# Altium integrated library sla2216.IntLib: 9 symbols
Pins are listed as number, name and electrical type; pins without a type are passive.

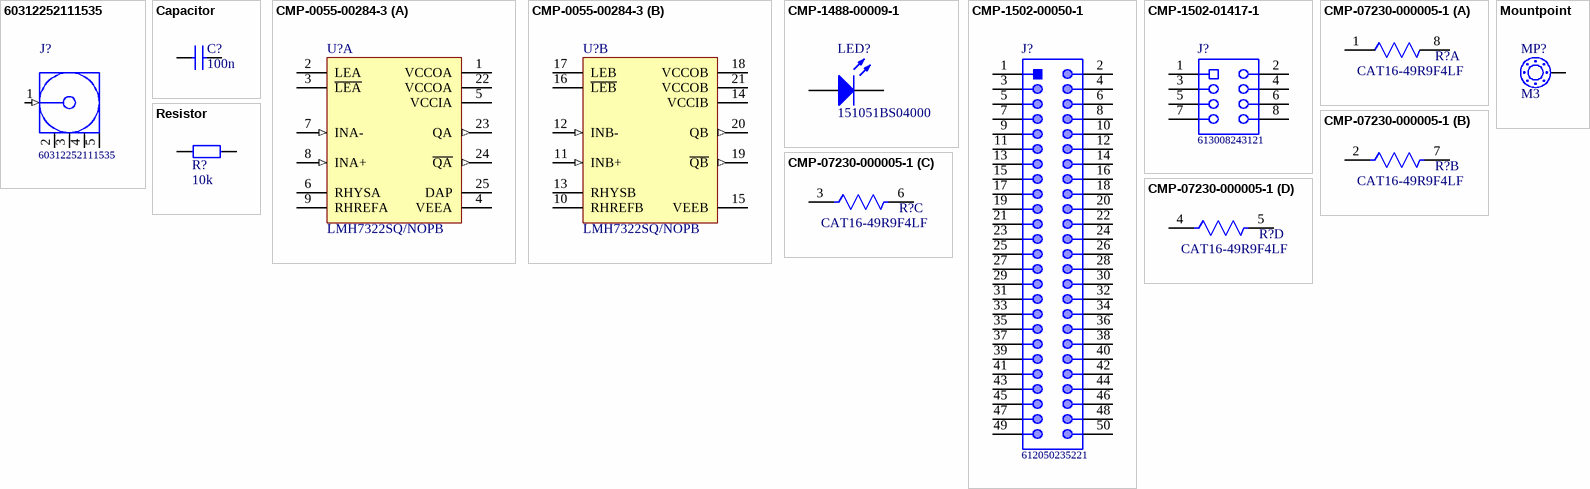
[diagram p0: symbols 60312252111535 to Resistor]

## 60312252111535
designator J?
WR-SMA Connector, PCB End Launch Jack, IP67, DC~6GHz, 50Ohm; Manufacturer: Wurth Elektronik; Connector Type: SMA; Orientation Type: Straight; Interface: MIL-STD-348; Center Contact Diameter: 0.51 WIDE x 0.25 THK; ComponentLink1Description: Manufacturer; ComponentLink1URL: http://www.we-online.de; ComponentLink2Description: Datasheet; ComponentLink2URL: https://www.we-online.com/catalog/datasheet/60312252111535.pdf; Manufacturer Part Number: 60312252111535; Published Date: November 2021; Operating Temperature: -65 to +165degC; Gender: Jack; Impedance: 50Ohm; Packaging: Tray; Frequency Range: DC~6GHz; Mounting Technology: End Launch
footprint 60312252111535 (SMA End launch PCB Bulkhead Jack)
pins: 1 Signal (in) "Signal Pin", 2 GND (power), 3 GND (power), 4 GND (power), 5 GND (power)

## Capacitor
designator C?  Capacitance: 100n
Ceramic Capacitor; Rated Voltage: 10V; BOMref: CAPC_100n_10%_10V_X7R_0402; Dielectric: X7R; Tolerance: 10%; Package: 0402
footprint CAP 0201/0603 (Chip Capacitor, 2-Leads, Body 0.60x0.30mm, IPC Medium Density)
footprint CAP 0402/1005 (Chip Capacitor, 2-Leads, Body 1.02x0.51mm, IPC Medium Density)
footprint CAP 0603/1608 (Chip Capacitor, 2-Leads, Body 1.60x0.80mm, IPC Medium Density)
footprint CAP 0805/2012 (Chip Capacitor, 2-Leads, Body 2.00x1.20mm, IPC Medium Density)
footprint CAP 1206/3216 (Chip Capacitor, 2-Leads, Body 3.25x1.60mm, IPC Medium Density)
footprint CAP 1210/3225 (Chip Capacitor, 2-Leads, Body 3.20x2.50mm, IPC Medium Density)
footprint CAP 1812/4532 (Chip Capacitor, 2-Leads, Body 4.50x3.20mm, IPC Medium Density)
pins: 1, 2

## CMP-0055-00284-3
designator U?, comment LMH7322SQ/NOPB
Dual 700 ps High Speed Comparator with RSPECL Outputs, 24-pin LLP, Pb-Free; Manufacturer: Texas Instruments; Manufacturer: TI National Semiconductor; CompType: Amplifiers; PackageTopMarking: NS*UZXYTT*L7322SQ; PowerWise: Y; ComponentLink1Description: Datasheet URL; ComponentLink1URL: http://www.ti.com/general/docs/lit/getliterature.tsp?genericPartNumber=LMH7322&fileType=pdf; Code_JEDEC: MO-220-WGGD-6; RoHS: Y; PinCount: 24; Package Reference: RTW0024A; PackageDescription: LLP, Plastic, Quad, 4 x 4 x 0.8mm Body, 24 Lead, 0.5mm Pitch, No Pullback; Manufacturer Part Number: LMH7322SQ/NOPB
footprint RTW0024A_V (QFN, 24-Leads, Body 4x4mm, Pitch 0.5mm, Thermal Pad 2.6x2.6mm, TI Recommended)
part A pins: 1 VCCOA (power), 2 LEA, 3 ~{LEA}, 4 VEEA (power), 5 VCCIA (power), 6 RHYSA, 7 INA- (in), 8 INA+ (in), 9 RHREFA, 22 VCCOA (power), 23 QA (out), 24 ~{QA} (out), 25 DAP (power)
part B pins: 10 RHREFB, 11 INB+ (in), 12 INB- (in), 13 RHYSB, 14 VCCIB (power), 15 VEEB (power), 16 ~{LEB}, 17 LEB, 18 VCCOB (power), 19 ~{QB} (out), 20 QB (out), 21 VCCOB (power)

## CMP-1488-00009-1
designator LED?, comment 151051BS04000
THT LED round mono-color color lens, WL-TMRW, Blue; Manufacturer: Wuerth Elektronik; Manufacturer: Wurth Electronics; PackageReference: Type 5mm; ComponentLink2Description: Datasheet; ComponentLink1Description: Manufacturer URL; Emitting color: Blue; ComponentLink1URL: http://www.we-online.com; PartNumber: 151051BS04000; ComponentLink2URL: http://katalog.we-online.de/pbs/datasheet/7448042001.pdfhttp://katalog.we-online.de/pbs/datasheet/7448042001.pdfhttp://katalog.we-online.de/pbs/datasheet/7448042001.pdfhttp://katalog.we-online.de/pbs/datasheet/151051BS04000.pdf; Manufacturer Part Number: 151051BS04000
footprint Type 5mm (THT, LED-5mm, 2pin- Body 5.8mm)
pins: 1 K, 2 A

## CMP-1502-00050-1
designator J?, comment 612050235221
Male Box Header WR-BHD, THT, Angled, pitch 2.54 mm, 50 pins; Manufacturer: Wurth Elektronik; Manufacturer: Wurth Electronics; Withstanding Voltage: 500VAC; Pin Number: 50; Pitch: 2.54mm; Contact Resistance: 20mOhm; Working Voltage: 250VAC; Published Date: August2018; Publisher: WurthElektronik; Package Reference: 612050235221; Mounting Technology: THT; Part Number: 612050235221; Manufacturer URL: http://www.we-online.de; Packaging: Tray; Operating Temperature: -40to125degC; Orientation: Angled; Datasheet URL: https://katalog.we-online.de/em/datasheet/6120xx235221.pdf; Gender: Male; Manufacturer Part Number: 612050235221
footprint 612050235221 (50 pins, right angled, gold plating, High Temperature)
pins: 1, 2, 3, 4, 5, 6, 7, 8, 9, 10, 11, 12, 13, 14, 15, 16, 17, 18, 19, 20, 21, 22, 23, 24, 25, 26, 27, 28, 29, 30, 31, 32, 33, 34, 35, 36, 37, 38, 39, 40, 41, 42, 43, 44, 45, 46, 47, 48, 49, 50

## CMP-1502-01417-1
designator J?, comment 613008243121
THT Angled Socket Header WR-PHD, Pitch 2.54 mm, Dual Row, 8 pins; Manufacturer: Wurth Elektronik; Manufacturer: Wurth Electronics; Rated Current: 3A; Pitch: 2.54mm; Contact Resistance: 20mOhm; Gender: Female; Withstanding Voltage: 500VAC; Working Voltage: 250VAC; Pin Number: 8; Row Number: Dual; Operating Temperature: -40to125degC; Packaging: Tray; Manufacturer URL: http://www.we-online.de; Mounting Technology: THT; Package Reference: 613008243121; Orientation: Angled; Part Number: 613008243121; Publisher: WurthElektronik; Datasheet URL: https://katalog.we-online.de/em/datasheet/6130xx243121.pdf; Manufacturer Part Number: 613008243121
footprint 613008243121 (Socket Header, Pitch 2.54 mm, THT, Angled, dual row, 8p)
pins: 1, 2, 3, 4, 5, 6, 7, 8

## CMP-07230-000005-1
designator R?, comment CAT16-49R9F4LF
RES ARRAY 4 RES 49.9 OHM 1206; Manufacturer: Bourns; Resistance: 49.9R; Temperature Coefficient: 200ppm/°C; Voltage Rating: 50V; Power Per Element: 62.5mW; Circuit Type: Isolated; Number of Resistors: 4; Power Rating: 248mW; Tolerance: 1%; Lead Pitch: 0.8mm; Max Operating Temperature: 125°C; Width: 0.063inch; Voltage Rating (DC): 50V; Number of Pins: 8; Depth: 1.6mm; REACH SVHC: No SVHC; Length: 3.2mm; Terminal Pitch: 0.8mm; Case Code (Metric): 3216; Radiation Hardening: No; Min Operating Temperature: -55°C; Packaging: Tape and Reel; Number of Terminals: 8; Military Standard: Not; Height: 0.024inch; Mount: Surface Mount; Termination: Concave; Package Quantity: 1; Number of Elements: 4; Case/Package: 1206; Case Code (Imperial): 1206; Manufacturer Part Number: CAT16-49R9F4LF
footprint FP-CAT16-F4-MFG
part A pins: 1, 8
part B pins: 2, 7
part C pins: 3, 6
part D pins: 4, 5

## Mountpoint
designator MP?, comment M3  (no BOM)
PCB mountpoint
footprint MP M3 (M3 mountpoint)
footprint MP M5 (M5 mountpoint)
pins: MP

## Resistor
designator R?  Resistance: 10k
Resistor; BOMref: RES_10k_5%_50V_0402; Tolerance: 5%; Voltage Rating: 50V; Package: 0402
footprint RES 0201/0603 (Chip Resistor, 2-Leads, Body 0.60x0.30mm, IPC Medium Density)
footprint RES 0402/1005 (Chip Resistor, 2-Leads, Body 1.0x0.5mm, IPC Medium Density)
footprint RES 0603/1608 (Chip Resistor, 2-Leads, Body 1.60x0.80mm, IPC Medium Density)
footprint RES 0805/2012 (Chip Resistor, 2-Leads, Body 2.00x1.25mm, IPC Medium Density)
footprint RES 1206/3216 (Chip Resistor, 2-Leads, Body 3.13x1.55mm, IPC Medium Density)
footprint RES 1210 (Chip Resistor, 2-Leads, Body 3.1x2.6mm, IPC Medium Density)
footprint RES 2010 (Chip Resistor, 2-Leads, Body 5.00x2.54mm, IPC Medium Density)
footprint RES 2512 (Chip Resistor, 2-Leads, Body 6.40x3.20mm, IPC Medium Density)
footprint MMA 0204
footprint MMB 0207
pins: 1, 2